# Altium footprint library CustomComponentLibraries.PcbLib: 13 footprints
Each footprint in its own frame and in the unit in brackets; x right, y up, seen from the top. Pads: shape width x height; smd on the part's side, far side on the other; paste and mask are expansions set on the pad; w line width, h text height; cw(c..) or ccw(c..) is an arc to the next point about the centre after c.
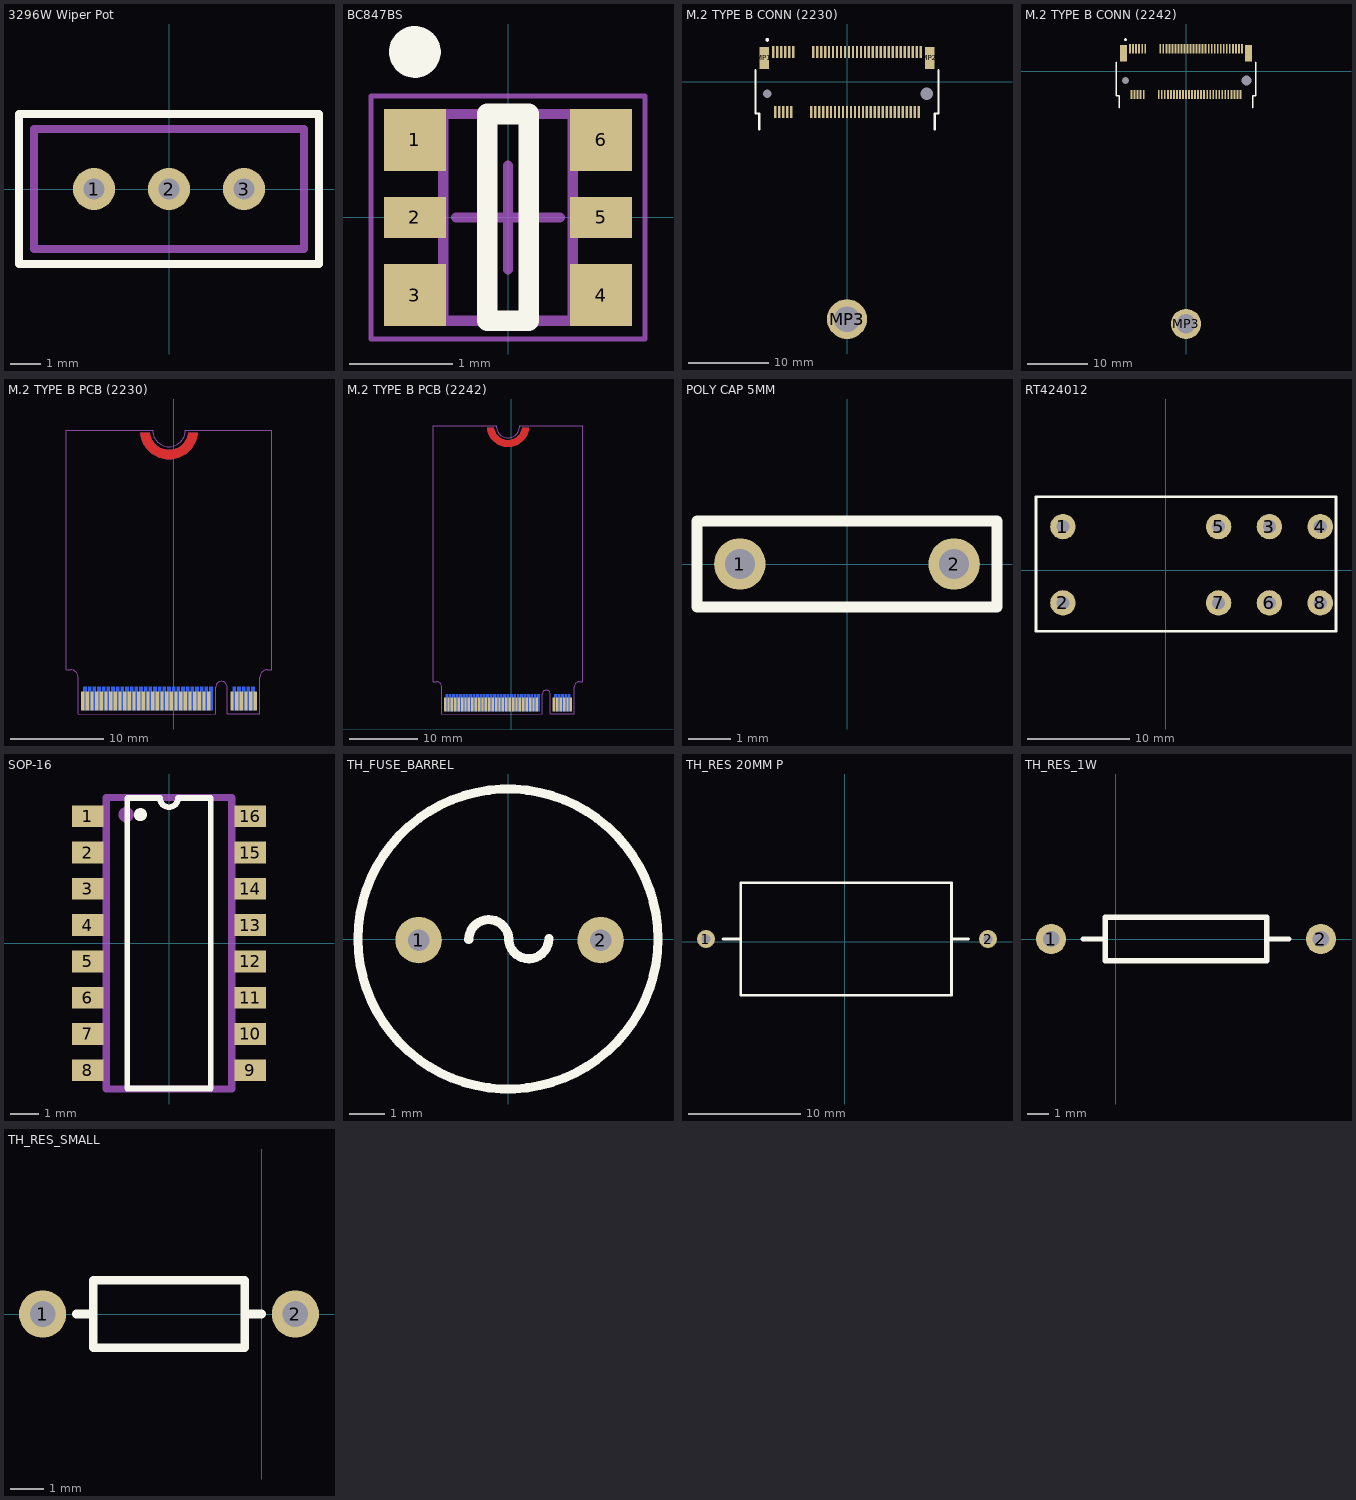
[diagram p0: the footprints below, top view; thin cyan lines are the x and y axes]

## 3296W Wiper Pot [mm] "3296W Series"
pads (3):
  round 1.4 hole 0.7: 1(-2.5,0) 2(0,0) 3(2.5,0)
Top Overlay:
  lines w0.254: -5,-2.5 5,-2.5 5,2.5 -5,2.5 -5,-2.5
Mechanical 13:
  lines w0.254: -4.5,-2 -4.5,2 4.5,2 4.5,-2 -4.5,-2
3D body "User Library-3296_Bourns.STEP": height 11.55, standoff -7.62, extent -4.765,-2.415 4.765,2.415

## BC847BS [mm]
pads (6):
  rect 0.6x0.6 smd paste-0.05: 1(-0.9,0.75) 3(-0.9,-0.75) 4(0.9,-0.75) 6(0.9,0.75)
  rect 0.6x0.4 smd: 2(-0.9,0) 5(0.9,0)
Top Overlay:
  circle w0.25: c-0.9,1.6 r0.125
  lines w0.2: -0.2,-1 -0.2,1 0.2,1 0.2,-1 -0.2,-1
Mechanical 13:
  lines w0.1: -0.625,-1 0.625,-1 0.625,1 -0.625,1 -0.625,-1
Mechanical 15:
  lines w0.05: -1.325,-1.175 1.325,-1.175 1.325,1.175 -1.325,1.175 -1.325,-1.175
  lines w0.1: -0.5,0 0.5,0 ; 0,-0.5 0,0.5
3D body: height 1.1, standoff 0.1, extent -0.625,-1 0.625,1

## M.2 TYPE B CONN (2230) [mm] "AS0BC21-S30BB-7H"
pads (72):
  round 0 hole 1.1 unplated: 1(-10,-1.5)
  rect 0.3x1.5 smd: 1(-9.25,3.75) 2(-9,-3.8) 3(-8.75,3.75) 4(-8.5,-3.8) 5(-8.25,3.75) 6(-8,-3.8) 7(-7.75,3.75) 8(-7.5,-3.8) 9(-7.25,3.75) 10(-7,-3.8) 11(-6.75,3.75) 20(-4.5,-3.8) 21(-4.25,3.75) 22(-4,-3.8) 23(-3.75,3.75) 24(-3.5,-3.8) 25(-3.25,3.75) 26(-3,-3.8) 27(-2.75,3.75) 28(-2.5,-3.8) 29(-2.25,3.75) 30(-2,-3.8) 31(-1.75,3.75) 32(-1.5,-3.8) 33(-1.25,3.75) 34(-1,-3.8) 35(-0.75,3.75) 36(-0.5,-3.8) 37(-0.25,3.75) 38(0,-3.8) 39(0.25,3.75) 40(0.5,-3.8) 41(0.75,3.75) 42(1,-3.8) 43(1.25,3.75) 44(1.5,-3.8) 45(1.75,3.75) 46(2,-3.8) 47(2.25,3.75) 48(2.5,-3.8) 49(2.75,3.75) 50(3,-3.8) 51(3.25,3.75) 52(3.5,-3.8) 53(3.75,3.75) 54(4,-3.8) 55(4.25,3.75) 56(4.5,-3.8) 57(4.75,3.75) 58(5,-3.8) 59(5.25,3.75) 60(5.5,-3.8) 61(5.75,3.75) 62(6,-3.8) 63(6.25,3.75) 64(6.5,-3.8) 65(6.75,3.75) 66(7,-3.8) 67(7.25,3.75) 68(7.5,-3.8) 69(7.75,3.75) 70(8,-3.8) 71(8.25,3.75) 72(8.5,-3.8) 73(8.75,3.75) 74(9,-3.8) 75(9.25,3.75)
  round 0 hole 1.6 unplated: 1(10,-1.5)
  rect 1.2x2.75 smd: MP1(-10.35,3) MP2(10.35,3)
  round 5 hole 3.2 unplated: MP3(0,-29.75)
Top Overlay:
  circle w0.254: c-10,5.25 r0.109
  lines w0.254: -11.5,1.5 -11.5,-4 -11,-4 -11,-6 ; 11,-6 11,-4 11.5,-4 11.5,1.5

## M.2 TYPE B CONN (2242) [mm] "AS0BC21-S30BB-7H"
pads (72):
  round 0 hole 1.1 unplated: 1(-10,-1.5)
  rect 0.3x1.5 smd: 1(-9.25,3.75) 2(-9,-3.8) 3(-8.75,3.75) 4(-8.5,-3.8) 5(-8.25,3.75) 6(-8,-3.8) 7(-7.75,3.75) 8(-7.5,-3.8) 9(-7.25,3.75) 10(-7,-3.8) 11(-6.75,3.75) 20(-4.5,-3.8) 21(-4.25,3.75) 22(-4,-3.8) 23(-3.75,3.75) 24(-3.5,-3.8) 25(-3.25,3.75) 26(-3,-3.8) 27(-2.75,3.75) 28(-2.5,-3.8) 29(-2.25,3.75) 30(-2,-3.8) 31(-1.75,3.75) 32(-1.5,-3.8) 33(-1.25,3.75) 34(-1,-3.8) 35(-0.75,3.75) 36(-0.5,-3.8) 37(-0.25,3.75) 38(0,-3.8) 39(0.25,3.75) 40(0.5,-3.8) 41(0.75,3.75) 42(1,-3.8) 43(1.25,3.75) 44(1.5,-3.8) 45(1.75,3.75) 46(2,-3.8) 47(2.25,3.75) 48(2.5,-3.8) 49(2.75,3.75) 50(3,-3.8) 51(3.25,3.75) 52(3.5,-3.8) 53(3.75,3.75) 54(4,-3.8) 55(4.25,3.75) 56(4.5,-3.8) 57(4.75,3.75) 58(5,-3.8) 59(5.25,3.75) 60(5.5,-3.8) 61(5.75,3.75) 62(6,-3.8) 63(6.25,3.75) 64(6.5,-3.8) 65(6.75,3.75) 66(7,-3.8) 67(7.25,3.75) 68(7.5,-3.8) 69(7.75,3.75) 70(8,-3.8) 71(8.25,3.75) 72(8.5,-3.8) 73(8.75,3.75) 74(9,-3.8) 75(9.25,3.75)
  round 0 hole 1.6 unplated: 1(10,-1.5)
  rect 1.2x2.75 smd: MP1(-10.35,3) MP2(10.35,3)
  round 5 hole 3.2 unplated: MP3(0,-41.75)
Top Overlay:
  circle w0.254: c-10,5.25 r0.109
  lines w0.254: -11.5,1.5 -11.5,-4 -11,-4 -11,-6 ; 11,-6 11,-4 11.5,-4 11.5,1.5

## M.2 TYPE B PCB (2230) [mm]
pads (69):
  rect 0.35x2 smd: 1(8.75,3.75) 3(8.25,3.75) 5(7.75,3.75) 7(7.25,3.75) 9(6.75,3.75) 11(6.25,3.75) 21(3.75,3.75) 23(3.25,3.75) 25(2.75,3.75) 27(2.25,3.75) 29(1.75,3.75) 31(1.25,3.75) 33(0.75,3.75) 35(0.25,3.75) 37(-0.25,3.75) 39(-0.75,3.75) 41(-1.25,3.75) 43(-1.75,3.75) 45(-2.25,3.75) 47(-2.75,3.75) 49(-3.25,3.75) 51(-3.75,3.75) 53(-4.25,3.75) 55(-4.75,3.75) 57(-5.25,3.75) 59(-5.75,3.75) 61(-6.25,3.75) 63(-6.75,3.75) 65(-7.25,3.75) 67(-7.75,3.75) 69(-8.25,3.75) 71(-8.75,3.75) 73(-9.25,3.75) 75(-9.75,3.75)
  rect 0.35x2.5 smd far side: 2(8.501,4.005) 4(8.001,4.005) 6(7.501,4.005) 8(7.001,4.005) 10(6.501,4.005) 20(4.001,4.005) 22(3.501,4.005) 24(3.001,4.005) 26(2.501,4.005) 28(2.001,4.005) 30(1.501,4.005) 32(1.001,4.005) 34(0.501,4.005) 36(0.001,4.005) 38(-0.499,4.005) 40(-0.999,4.005) 42(-1.499,4.005) 44(-1.999,4.005) 46(-2.499,4.005) 48(-2.999,4.005) 50(-3.499,4.005) 52(-3.999,4.005) 54(-4.499,4.005) 56(-4.999,4.005) 58(-5.499,4.005) 60(-5.999,4.005) 62(-6.499,4.005) 64(-6.999,4.005) 66(-7.499,4.005) 68(-7.999,4.005) 70(-8.499,4.005) 72(-8.999,4.005) 74(-9.499,4.005)
  round 0.025 smd: MP1(-0.475,30.125)
  round 0.025 smd far side: MP1(-0.475,30.125)
Top Layer:
  region: -3.589,32.489 -3.579,32.374 -3.543,32.147 -3.49,31.923 -3.42,31.703 -3.334,31.489 -3.233,31.282 -3.116,31.083 -2.985,30.893 -2.841,30.714 -2.683,30.546 -2.513,30.39 -2.332,30.247 -2.142,30.118 -1.942,30.003 -1.734,29.904 -1.519,29.82 -1.298,29.752 -1.074,29.701 -0.846,29.667 -0.616,29.65 -0.385,29.65 -0.156,29.667 0.072,29.701 0.297,29.752 0.518,29.82 0.732,29.903 0.94,30.003 1.14,30.117 1.331,30.246 1.512,30.389 1.682,30.545 1.84,30.713 1.985,30.892 2.116,31.082 2.232,31.281 2.334,31.488 2.42,31.702 2.489,31.921 2.543,32.146 2.579,32.373 2.589,32.488 2.572,32.49 1.584,32.49 1.57,32.396 1.529,32.21 1.472,32.029 1.399,31.854 1.311,31.686 1.207,31.527 1.09,31.378 0.96,31.24 0.817,31.114 0.664,31.002 0.502,30.904 0.331,30.821 0.153,30.754 -0.029,30.703 -0.216,30.669 -0.405,30.652 -0.595,30.652 -0.784,30.669 -0.971,30.703 -1.153,30.754 -1.331,30.821 -1.502,30.904 -1.664,31.002 -1.817,31.114 -1.96,31.24 -2.09,31.378 -2.207,31.527 -2.311,31.686 -2.399,31.854 -2.472,32.029 -2.529,32.21 -2.57,32.396 -2.584,32.49
Bottom Layer:
  region: -3.589,32.489 -3.579,32.374 -3.543,32.147 -3.49,31.923 -3.42,31.703 -3.334,31.489 -3.233,31.282 -3.116,31.083 -2.985,30.893 -2.841,30.714 -2.683,30.546 -2.513,30.39 -2.332,30.247 -2.142,30.118 -1.942,30.003 -1.734,29.904 -1.519,29.82 -1.298,29.752 -1.074,29.701 -0.846,29.667 -0.616,29.65 -0.385,29.65 -0.156,29.667 0.072,29.701 0.297,29.752 0.518,29.82 0.732,29.903 0.94,30.003 1.14,30.117 1.331,30.246 1.512,30.389 1.682,30.545 1.84,30.713 1.985,30.892 2.116,31.082 2.232,31.281 2.334,31.488 2.42,31.702 2.489,31.921 2.543,32.146 2.579,32.373 2.589,32.488 2.572,32.49 1.584,32.49 1.57,32.396 1.529,32.21 1.472,32.029 1.399,31.854 1.311,31.686 1.207,31.527 1.09,31.378 0.96,31.24 0.817,31.114 0.664,31.002 0.502,30.904 0.331,30.821 0.153,30.754 -0.029,30.703 -0.216,30.669 -0.405,30.652 -0.595,30.652 -0.784,30.669 -0.971,30.703 -1.153,30.754 -1.331,30.821 -1.502,30.904 -1.664,31.002 -1.817,31.114 -1.96,31.24 -2.09,31.378 -2.207,31.527 -2.311,31.686 -2.399,31.854 -2.472,32.029 -2.529,32.21 -2.57,32.396 -2.584,32.49
Mechanical 1:
  lines w0.01: 4.524,5.225 cw(c4.522,5.223) 4.525,5.223 ; 4.525,5.223 cw(c5.125,5.249) 5.725,5.225 5.725,2.35 9.25,2.35 9.25,5.8 9.25,6.3 cw(c10.05,6.3) 10.05,7.1 10.5,7.1 10.5,7.4 10.5,17.8 10.5,32.75 3,32.75 1.25,32.75 cw(c-0.5,32.75) -2.25,32.75 -4,32.75 -11.5,32.75 -11.5,17.8 -11.5,7.4 -11.5,7.1 -11.05,7.1 cw(c-11.05,6.3) -10.25,6.3 -10.25,5.8 -10.25,2.35 4.525,2.35 4.525,4.009 4.525,5.223

## M.2 TYPE B PCB (2242) [mm]
pads (69):
  rect 0.35x2 smd: 1(8.75,3.75) 3(8.25,3.75) 5(7.75,3.75) 7(7.25,3.75) 9(6.75,3.75) 11(6.25,3.75) 21(3.75,3.75) 23(3.25,3.75) 25(2.75,3.75) 27(2.25,3.75) 29(1.75,3.75) 31(1.25,3.75) 33(0.75,3.75) 35(0.25,3.75) 37(-0.25,3.75) 39(-0.75,3.75) 41(-1.25,3.75) 43(-1.75,3.75) 45(-2.25,3.75) 47(-2.75,3.75) 49(-3.25,3.75) 51(-3.75,3.75) 53(-4.25,3.75) 55(-4.75,3.75) 57(-5.25,3.75) 59(-5.75,3.75) 61(-6.25,3.75) 63(-6.75,3.75) 65(-7.25,3.75) 67(-7.75,3.75) 69(-8.25,3.75) 71(-8.75,3.75) 73(-9.25,3.75) 75(-9.75,3.75)
  rect 0.35x2.5 smd far side: 2(8.501,4.005) 4(8.001,4.005) 6(7.501,4.005) 8(7.001,4.005) 10(6.501,4.005) 20(4.001,4.005) 22(3.501,4.005) 24(3.001,4.005) 26(2.501,4.005) 28(2.001,4.005) 30(1.501,4.005) 32(1.001,4.005) 34(0.501,4.005) 36(0.001,4.005) 38(-0.499,4.005) 40(-0.999,4.005) 42(-1.499,4.005) 44(-1.999,4.005) 46(-2.499,4.005) 48(-2.999,4.005) 50(-3.499,4.005) 52(-3.999,4.005) 54(-4.499,4.005) 56(-4.999,4.005) 58(-5.499,4.005) 60(-5.999,4.005) 62(-6.499,4.005) 64(-6.999,4.005) 66(-7.499,4.005) 68(-7.999,4.005) 70(-8.499,4.005) 72(-8.999,4.005) 74(-9.499,4.005)
  round 0.025 smd far side: MP1(-0.475,42.114)
  round 0.025 smd: MP1(-0.475,42.114)
Top Layer:
  region: -3.589,44.478 -3.579,44.364 -3.543,44.136 -3.49,43.912 -3.42,43.692 -3.334,43.478 -3.233,43.271 -3.116,43.072 -2.985,42.883 -2.841,42.703 -2.683,42.535 -2.513,42.379 -2.332,42.236 -2.141,42.107 -1.941,41.992 -1.734,41.893 -1.519,41.809 -1.298,41.741 -1.074,41.69 -0.846,41.656 -0.616,41.639 -0.385,41.639 -0.155,41.656 0.072,41.69 0.297,41.741 0.518,41.809 0.732,41.892 0.94,41.992 1.14,42.106 1.331,42.235 1.512,42.378 1.682,42.534 1.84,42.702 1.985,42.882 2.116,43.071 2.232,43.27 2.334,43.477 2.42,43.691 2.489,43.91 2.543,44.135 2.579,44.362 2.589,44.477 2.572,44.479 1.584,44.479 1.57,44.385 1.529,44.199 1.472,44.018 1.399,43.843 1.311,43.675 1.207,43.516 1.09,43.367 0.96,43.229 0.817,43.104 0.664,42.991 0.502,42.893 0.331,42.81 0.153,42.743 -0.029,42.693 -0.216,42.658 -0.405,42.641 -0.595,42.641 -0.784,42.658 -0.971,42.693 -1.153,42.743 -1.331,42.81 -1.502,42.893 -1.664,42.991 -1.817,43.104 -1.959,43.229 -2.09,43.367 -2.207,43.516 -2.311,43.675 -2.399,43.843 -2.472,44.018 -2.529,44.199 -2.57,44.385 -2.584,44.479
Bottom Layer:
  region: -3.589,44.478 -3.579,44.364 -3.543,44.136 -3.49,43.912 -3.42,43.692 -3.334,43.478 -3.233,43.271 -3.116,43.072 -2.985,42.883 -2.841,42.703 -2.683,42.535 -2.513,42.379 -2.332,42.236 -2.141,42.107 -1.941,41.992 -1.734,41.893 -1.519,41.809 -1.298,41.741 -1.074,41.69 -0.846,41.656 -0.616,41.639 -0.385,41.639 -0.155,41.656 0.072,41.69 0.297,41.741 0.518,41.809 0.732,41.892 0.94,41.992 1.14,42.106 1.331,42.235 1.512,42.378 1.682,42.534 1.84,42.702 1.985,42.882 2.116,43.071 2.232,43.27 2.334,43.477 2.42,43.691 2.489,43.91 2.543,44.135 2.579,44.362 2.589,44.477 2.572,44.479 1.584,44.479 1.57,44.385 1.529,44.199 1.472,44.018 1.399,43.843 1.311,43.675 1.207,43.516 1.09,43.367 0.96,43.229 0.817,43.104 0.664,42.991 0.502,42.893 0.331,42.81 0.153,42.743 -0.029,42.693 -0.216,42.658 -0.405,42.641 -0.595,42.641 -0.784,42.658 -0.971,42.693 -1.153,42.743 -1.331,42.81 -1.502,42.893 -1.664,42.991 -1.817,43.104 -1.959,43.229 -2.09,43.367 -2.207,43.516 -2.311,43.675 -2.399,43.843 -2.472,44.018 -2.529,44.199 -2.57,44.385 -2.584,44.479
Mechanical 1:
  lines w0.01: 4.524,5.225 cw(c4.522,5.223) 4.525,5.223 ; 4.525,5.223 cw(c5.125,5.249) 5.725,5.225 5.725,2.35 9.25,2.35 9.25,5.8 9.25,6.3 cw(c10.05,6.3) 10.05,7.1 10.5,7.1 10.5,7.4 10.5,17.8 10.5,32.75 10.5,44.739 3,44.739 1.25,44.739 cw(c-0.5,44.739) -2.25,44.739 -4,44.739 -11.5,44.739 -11.5,32.75 -11.5,17.8 -11.5,7.4 -11.5,7.1 -11.05,7.1 cw(c-11.05,6.3) -10.25,6.3 -10.25,5.8 -10.25,2.35 4.525,2.35 4.525,4.009 4.525,5.223

## POLY CAP 5MM [mm] "Generic TH Polyester Capacitor 5MM"
pads (2):
  round 1.2 hole 0.7: 1(-2.5,0) 2(2.5,0)
Top Overlay:
  lines w0.254: -3.5,-1 3.5,-1 3.5,1 -3.5,1 -3.5,-1

## RT424012 [mm]
pads (8):
  round 2.5 hole 1.3: 1(-10.1,4.3) 2(-10.1,-3.2) 3(10.2,4.3) 4(15.2,4.3) 5(5.2,4.3) 6(10.2,-3.2) 7(5.2,-3.2) 8(15.2,-3.2)
Top Overlay:
  lines w0.254: -12.75,-6 16.75,-6 16.75,7.25 -12.75,7.25 -12.75,-6
3D body "c-6-1393243-3-c-3d.stp": height 15.8, standoff -3.5, extent -12.452,-5.685 16.548,7.015

## SOP-16 [mm]
pads (16):
  rect 1.1x0.76 smd: 1(-2.85,4.445) 2(-2.85,3.175) 3(-2.85,1.905) 4(-2.85,0.635) 5(-2.85,-0.635) 6(-2.85,-1.905) 7(-2.85,-3.175) 8(-2.85,-4.445) 9(2.85,-4.445) 10(2.85,-3.175) 11(2.85,-1.905) 12(2.85,-0.635) 13(2.85,0.635) 14(2.85,1.905) 15(2.85,3.175) 16(2.85,4.445)
Top Overlay:
  circle w0.254: c-1,4.5 r0.1
  lines w0.2: -1.465,-5.08 -1.465,5.08 -0.318,5.08 ccw(c0,5.08) 0.318,5.08 1.465,5.08 1.465,-5.08 -1.465,-5.08
Mechanical 13:
  circle w0.254: c-1.5,4.5 r0.141
  lines w0.254: -2.2,-5.1 2.2,-5.1 2.2,5.1 -2.2,5.1 -2.2,-5.1
3D body "User Library-sop16-1.step": height 1.58, standoff 0, extent -3.117,-4.99 3.119,4.991

## TH_FUSE_BARREL [mm]
pads (2):
  round 1.3 hole 0.6: 1(-2.504,-0.031) 2(2.596,-0.031)
Top Overlay:
  circle w0.254: c0,0 r4.2
  lines w0.254: -1.1,-0.02 cw(c-0.539,-0.02) 0.022,-0.006 ; 0.02,-0.005 ccw(c0.581,0.009) 1.142,0.009

## TH_RES 20MM P [mm]
pads (2):
  round 1.6 hole 0.8: 1(-12.35,0.25) 2(12.75,0.25)
Top Overlay:
  lines w0.254: -10.85,0.25 -9.25,0.25 ; 9.6,0.25 11,0.25 ; -9.25,-4.75 9.5,-4.75 9.5,5.25 -9.25,5.25 -9.25,-4.75

## TH_RES_1W [mm]
pads (2):
  round 1.4 hole 0.762: 1(-3,0) 2(9.5,0)
Top Overlay:
  lines w0.254: -1.5,0 -0.5,0 ; 7,0 8,0 ; -0.5,-1 7,-1 7,1 -0.5,1 -0.5,-1

## TH_RES_SMALL [mm]
pads (2):
  round 1.4 hole 0.762: 1(-6.5,0) 2(1,0)
Top Overlay:
  lines w0.254: -5.5,0 -5,0 ; -0.5,0 0,0 ; -5,-1 -0.5,-1 -0.5,1 -5,1 -5,-1